# EAGLE library part USBMINI (library Mine)
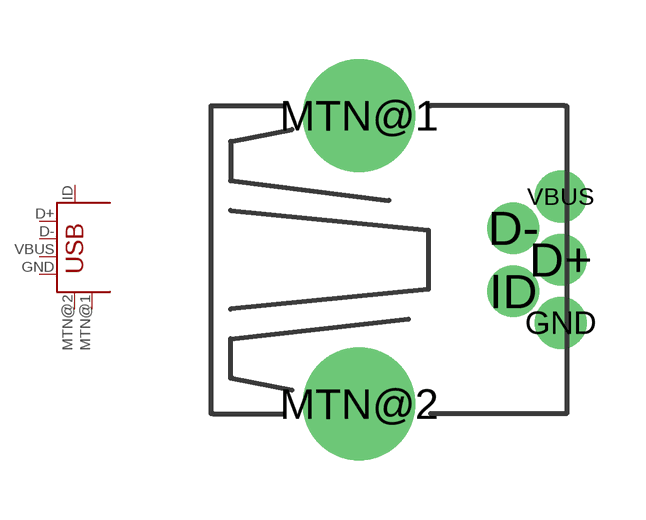
[diagram p5: symbol with the pads of USBMINI; footprint USBMINI]

Designator prefix -

## USBMINI  [USBMINI]
D+  D+
D-  D-
GND  GND
ID  ID
MTN@1  P$2
MTN@2  P$1
VBUS  VBUS

## Footprint USBMINI (pad centres in mm)
drill 0.8: D+ 5.1,0; D- 3.9,0.8; GND 5.1,-1.6; ID 3.9,-0.8; VBUS 5.1,1.6
drill 1.9: MTN@1 0,3.65; MTN@2 0,-3.65